# EAGLE library part 5140KBD (library wntrmute)
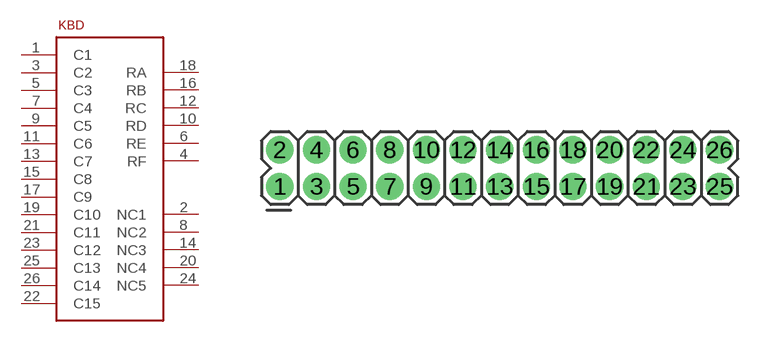
[diagram p12: symbol with the pads of 2X13; footprint 2X13]

Designator prefix -

## 5140KBD  [2X13]
1  C1
2  NC1
3  C2
4  RF
5  C3
6  RE
7  C4
8  NC2
9  C5
10  RD
11  C6
12  RC
13  C7
14  NC3
15  C8
16  RB
17  C9
18  RA
19  C10
20  NC4
21  C11
22  C15
23  C12
24  NC5
25  C13
26  C14

## Footprint 2X13 (pad centres in mm)
Plated Through Hole - 2x13 Specifications: Pin count:26 Pin pitch:0.1" Example device(s): CONN_13x2
drill 1.016 pad 1.88: 1 0,0; 2 0,2.54; 3 2.54,0; 4 2.54,2.54; 5 5.08,0; 6 5.08,2.54; 7 7.62,0; 8 7.62,2.54; 9 10.16,0; 10 10.16,2.54; 11 12.7,0; 12 12.7,2.54; 13 15.24,0; 14 15.24,2.54; 15 17.78,0; 16 17.78,2.54; 17 20.32,0; 18 20.32,2.54; 19 22.86,0; 20 22.86,2.54; 21 25.4,0; 22 25.4,2.54; 23 27.94,0; 24 27.94,2.54; 25 30.48,0; 26 30.48,2.54